# Altium footprint library basic_pcb.PcbLib: 133 footprints (part 8 of 9)
Each footprint in its own frame and in the unit in brackets; x right, y up, seen from the top. Pads: shape width x height; smd on the part's side, far side on the other; paste and mask are expansions set on the pad; w line width, h text height; cw(c..) or ccw(c..) is an arc to the next point about the centre after c.
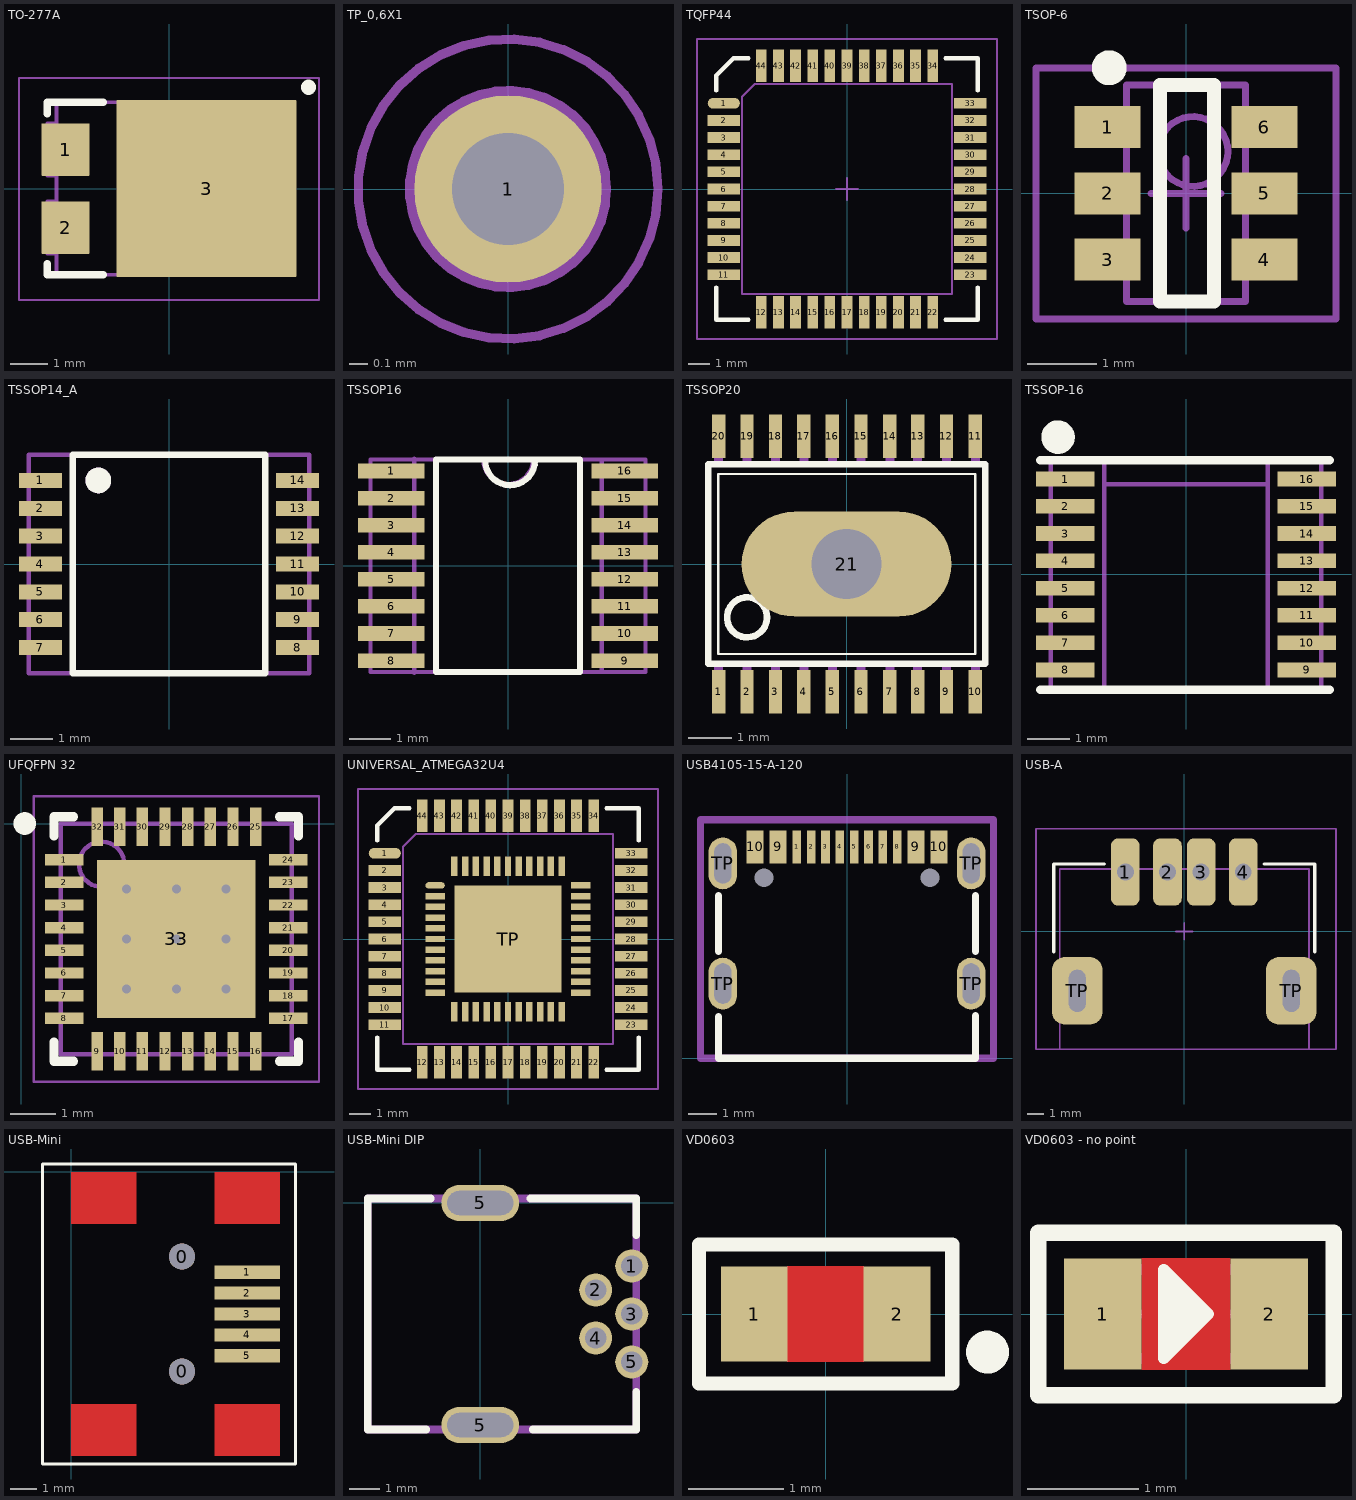
[diagram p7: the footprints below, top view; thin cyan lines are the x and y axes]

## TO-277A [mm] "SMPC (TO-277A)"
height 1.2
pads (3):
  rrect1% 1.27x1.4 smd: 1(-2.76,1.04) 2(-2.76,-1.04)
  rrect1% 4.8x4.72 smd: 3(1,0)
Top Overlay:
  circle w0.4: c3.725,2.7 r0.001
  lines w0.2: -3.25,-2 -3.25,-2.3 -1.75,-2.3 ; -3.25,2 -3.25,2.3 -1.75,2.3
Top Value:
  text ".Comment" at -4.008,-5.252 h1.52
Top Designator:
  text ".Designator" at -4.018,-4.029 h1.52
Top Component Outline:
  region: 2.25,2.3 1.2,2.3 1.2,-2.3 2.25,-2.3
  lines w0.1: -3.025,-2.3 3,-2.3 3,2.3 -3.025,2.3 ; -3,-2.3 -3,2.3 ; -3,-1.737 -3.25,-1.737 -3.25,-0.343 -3,-0.343 ; -3,0.343 -3.25,0.343 -3.25,1.737 -3,1.737 ; 3,-1.197 3.25,-1.197 3.25,1.197 3,1.197
Top Courtyard:
  lines w0.05: -4,-2.975 -4,2.95 4,2.95 4,-2.975 -4,-2.975
  lines w0.1: -0.5,0 0.5,0 ; 0,-0.5 0,0.5
3D body "86A--3DModel-STEP-56544.STEP": height 1.2, standoff 0, extent -3.25,-2.3 3.25,2.3

## TP_0,6X1 [mm]
pads (1):
  round 1 hole 0.6: 1(0,0)
Top Overlay:
  text ".Name" at 0.75,-0.6 h1.5
Top Value:
  text ".Comment" at 0.792,-0.952 h1.52
Top Designator:
  text ".Designator" at 0.782,0.271 h1.52
Top Component Outline:
  circle w0.1: c0,0 r0.3
  circle w0.1: c0,0 r0.5
Top Courtyard:
  circle w0.05: c0,0 r0.8
  lines w0.1: -0.5,0 0.5,0 ; 0,-0.5 0,0.5

## TQFP44 [mm]
pads (44):
  oval 1.5x0.5 smd: 1(-5.75,4)
  rect 1.5x0.5 smd: 2(-5.75,3.2) 3(-5.75,2.4) 4(-5.75,1.6) 5(-5.75,0.8) 6(-5.75,0) 7(-5.75,-0.8) 8(-5.75,-1.6) 9(-5.75,-2.4) 10(-5.75,-3.2) 11(-5.75,-4) 23(5.75,-4) 24(5.75,-3.2) 25(5.75,-2.4) 26(5.75,-1.6) 27(5.75,-0.8) 28(5.75,0) 29(5.75,0.8) 30(5.75,1.6) 31(5.75,2.4) 32(5.75,3.2) 33(5.75,4)
  rect 0.5x1.5 smd: 12(-4,-5.75) 13(-3.2,-5.75) 14(-2.4,-5.75) 15(-1.6,-5.75) 16(-0.8,-5.75) 17(0,-5.75) 18(0.8,-5.75) 19(1.6,-5.75) 20(2.4,-5.75) 21(3.2,-5.75) 22(4,-5.75) 34(4,5.75) 35(3.2,5.75) 36(2.4,5.75) 37(1.6,5.75) 38(0.8,5.75) 39(0,5.75) 40(-0.8,5.75) 41(-1.6,5.75) 42(-2.4,5.75) 43(-3.2,5.75) 44(-4,5.75)
Top Overlay:
  lines w0.2: -6.1,-4.6 -6.1,-6.1 -4.6,-6.1 ; -6.1,4.6 -6.1,5.3 -5.3,6.1 -4.6,6.1 ; 4.6,-6.1 6.1,-6.1 6.1,-4.6 ; 4.6,6.1 6.1,6.1 6.1,4.6
Top Value:
  text ".Comment" at -2.189,-0.952 h1.52
Top Designator:
  text ".Designator" at -2.617,0.272 h1.52
Top Component Outline:
  lines w0.1: -4.9,-4.9 -4.9,4.3 -4.3,4.9 4.9,4.9 4.9,-4.9 -4.9,-4.9
Top Courtyard:
  lines w0.1: -0.5,0 0.5,0 ; 0,-0.5 0,0.5 ; -7,-7 7,-7 7,7 -7,7 -7,-7
3D body "User Library-TQFP-44-1.STEP": height 1.1, standoff 0, extent -6,-6 6,6

## TSOP-6 [mm] "TSOP, 6-Leads, Body 3,1x1,7mm (max), Pitch 0,95mm, IPC Medium Density"
height 1.1
pads (6):
  rect 0.95x0.6 smd: 1(-1.125,0.95) 2(-1.125,0) 3(-1.125,-0.95) 4(1.125,-0.95) 5(1.125,0) 6(1.125,0.95)
Top Overlay:
  circle w0.25: c-1.1,1.8 r0.125
  lines w0.2: -0.375,-1.55 -0.375,1.55 0.4,1.55 0.4,-1.55 -0.375,-1.55
Top Value:
  text ".Comment" at -2.189,-4.152 h1.52
Top Designator:
  circle w0.1: c0.1,0.6 r0.5
  lines w0.1: -0.85,-1.55 -0.85,1.55 0.85,1.55 0.85,-1.55 -0.85,-1.55
  text ".Designator" at -2.617,-2.928 h1.52
Top Courtyard:
  lines w0.1: -0.5,0 0.5,0 ; 0,-0.5 0,0.5 ; -2.15,-1.8 -2.15,1.8 2.15,1.8 2.15,-1.8 -2.15,-1.8
3D body: height 1.1, standoff 0.01, extent -0.85,-1.55 0.85,1.55

## TSSOP14_A [mm]
height 1.1
pads (14):
  rect 1x0.35 smd: 1(-3,1.95) 2(-3,1.3) 3(-3,0.65) 4(-3,0) 5(-3,-0.65) 6(-3,-1.3) 7(-3,-1.95) 8(3,-1.95) 9(3,-1.3) 10(3,-0.65) 11(3,0) 12(3,0.65) 13(3,1.3) 14(3,1.95)
Top Overlay:
  circle w0.3: c-1.65,1.95 r0.15
  lines w0.15: -2.25,-2.55 -2.25,2.55 2.25,2.55 2.25,-2.55 -2.25,-2.55
Top Value:
  circle w0.3: c-1.65,1.95 r0.15
  lines w0.1: -2.25,-2.55 -2.25,2.55 ; 2.25,-2.55 2.25,2.55 ; -3.275,-2.55 3.275,-2.55 3.275,2.55 -3.275,2.55 -3.275,-2.55
  text ".Comment" at 0.952,-2.189 h1.52
Top Designator:
  text ".Designator" at -0.272,-2.617 h1.52
3D body: height 0.5, standoff 0, extent 2.25,-2.55 3.275,2.55
3D body: height 0.5, standoff 0, extent -3.275,-2.55 -2.25,2.55
3D body: height 1.1, standoff 0, extent -2.25,-2.55 2.25,2.55

## TSSOP16 [mm]
height 1.99
pads (16):
  rect 1.6x0.35 smd: 1(-2.8,2.275) 2(-2.8,1.625) 3(-2.8,0.975) 4(-2.8,0.325) 5(-2.8,-0.325) 6(-2.8,-0.975) 7(-2.8,-1.625) 8(-2.8,-2.275) 9(2.8,-2.275) 10(2.8,-1.625) 11(2.8,-0.975) 12(2.8,-0.325) 13(2.8,0.325) 14(2.8,0.975) 15(2.8,1.625) 16(2.8,2.275)
Top Overlay:
  lines w0.15: -0.55,2.535 ccw(c0.05,2.535) 0.65,2.525 ; -1.725,-2.55 1.725,-2.55 1.725,2.55 -1.725,2.55 -1.725,-2.55
Top Value:
  lines w0.1: -2.25,-2.575 -2.25,2.575 ; -0.6,2.56 ccw(c0,2.56) 0.6,2.55 ; 2.25,-2.55 2.25,2.55 ; -3.3,-2.55 3.3,-2.55 3.3,2.55 -3.3,2.55 -3.3,-2.55
  text ".Comment" at 0.952,-2.189 h1.52
Top Designator:
  text ".Designator" at -0.272,-2.617 h1.52
3D body: height 0.75, standoff 0, extent 2.25,-2.55 3.3,2.525
3D body: height 0.75, standoff 0, extent -3.3,-2.55 -2.25,2.525
3D body: height 1.99, standoff 0, extent -2.25,-2.55 2.25,2.525

## TSSOP20 [mil]
pads (21):
  rect 12x39 smd: 1(-115.16,-114.87) 2(-89.57,-114.87) 3(-63.98,-114.87) 4(-38.39,-114.87) 5(-12.8,-114.87) 6(13,-114.87) 7(39,-114.87) 8(64,-114.87) 9(90,-114.87) 10(116,-114.87) 11(116,115) 12(90,115) 13(64,115) 14(39,115) 15(13,115) 16(-12.8,115) 17(-38.39,115) 18(-63.98,115) 19(-89.57,115) 20(-115.16,115)
  oval 189x94.5 hole 63: 21(0,0)
Top Overlay:
  circle w6: c-89.59,-48 r18
  lines w2: -115.59,-80.87 -115.59,81 116,81 116,-80.87 -115.59,-80.87
  lines w6: -124.59,-89.87 -124.59,90 125,90 125,-89.87 -124.59,-89.87
Top Value:
  text ".Comment" at 218.57,-86.18 h60
Top Designator:
  text ".Designator" at 170.41,-103.05 h60
Bottom Courtyard:
  rectangle: -119.16,90 -111.16,123
  rectangle: -93.57,90 -85.57,123
  rectangle: -67.98,90 -59.98,123
  rectangle: -42.39,90 -34.39,123
  rectangle: -16.8,90 -8.8,123
  rectangle: 9,90 17,123
  rectangle: 35,90 43,123
  rectangle: 60,90 68,123
  rectangle: 86,90 94,123
  rectangle: 112,90 120,123
  rectangle: 112,-122.87 120,-89.87
  rectangle: 86,-122.87 94,-89.87
  rectangle: 60,-122.87 68,-89.87
  rectangle: 35,-122.87 43,-89.87
  rectangle: 9,-122.87 17,-89.87
  rectangle: -16.8,-122.87 -8.8,-89.87
  rectangle: -42.39,-122.87 -34.39,-89.87
  rectangle: -67.98,-122.87 -59.98,-89.87
  rectangle: -93.57,-122.87 -85.57,-89.87
  rectangle: -119.16,-122.87 -111.16,-89.87

## TSSOP-16 [mm]
pads (16):
  rect 1.4x0.35 smd: 1(-2.875,2.275) 2(-2.875,1.625) 3(-2.875,0.975) 4(-2.875,0.325) 5(-2.875,-0.325) 6(-2.875,-0.975) 7(-2.875,-1.625) 8(-2.875,-2.275) 9(2.875,-2.275) 10(2.875,-1.625) 11(2.875,-0.975) 12(2.875,-0.325) 13(2.875,0.325) 14(2.875,0.975) 15(2.875,1.625) 16(2.875,2.275)
Top Overlay:
  circle w0.4: c-3.05,3.275 r0.2
  lines w0.2: -3.475,-2.75 3.425,-2.75 ; -3.475,2.725 3.425,2.725
Top Value:
  text ".Comment" at 0.952,-2.189 h1.52
Top Designator:
  text ".Designator" at -0.272,-2.617 h1.52
Top Component Outline:
  lines w0.1: -1.95,-2.75 -1.95,2.75 ; -1.937,2.15 1.9,2.15 ; 1.95,-2.75 1.95,2.75 ; 3.2,-2.75 -3.225,-2.75 -3.225,2.75 3.225,2.75 3.225,-2.75
3D body "TSSOP-16.STEP": height 1, standoff 0, extent -3.2,-2.5 3.2,2.5

## UFQFPN 32 [mm]
pads (33):
  rect 0.85x0.25 smd: 1(0.954,-0.79) 2(0.954,-1.29) 3(0.954,-1.79) 4(0.954,-2.29) 5(0.954,-2.79) 6(0.954,-3.29) 7(0.954,-3.79) 8(0.954,-4.29) 17(5.904,-4.29) 18(5.904,-3.79) 19(5.904,-3.29) 20(5.904,-2.79) 21(5.904,-2.29) 22(5.904,-1.79) 23(5.904,-1.29) 24(5.904,-0.79)
  rect 0.25x0.85 smd: 9(1.679,-5.015) 10(2.179,-5.015) 11(2.679,-5.015) 12(3.179,-5.015) 13(3.679,-5.015) 14(4.179,-5.015) 15(4.679,-5.015) 16(5.179,-5.015) 25(5.179,-0.065) 26(4.679,-0.065) 27(4.179,-0.065) 28(3.679,-0.065) 29(3.179,-0.065) 30(2.679,-0.065) 31(2.179,-0.065) 32(1.679,-0.065)
  rect 3.5x3.5 smd: 33(3.429,-2.54)
via 4.529,-3.64 diameter 0.5 hole 0.2
via 3.429,-3.64 diameter 0.5 hole 0.2
via 2.329,-3.64 diameter 0.5 hole 0.2
via 4.529,-2.54 diameter 0.5 hole 0.2
via 3.429,-2.54 diameter 0.5 hole 0.2
via 2.329,-2.54 diameter 0.5 hole 0.2
via 4.529,-1.44 diameter 0.5 hole 0.2
via 3.429,-1.44 diameter 0.5 hole 0.2
via 2.329,-1.44 diameter 0.5 hole 0.2
Top Overlay:
  circle w0.25: c0.079,0.01 r0.125
  lines w0.2: 0.729,-4.815 0.729,-5.24 1.154,-5.24 ; 0.729,-0.265 0.729,0.16 1.154,0.16 ; 5.704,-5.24 6.129,-5.24 6.129,-4.815 ; 5.704,0.16 6.129,0.16 6.129,-0.265
Top Value:
  text ".Comment" at 0.292,-7.952 h1.52
Top Designator:
  circle w0.1: c1.779,-0.89 r0.5
  lines w0.1: 0.879,-5.09 5.979,-5.09 5.979,0.01 0.879,0.01 0.879,-5.09
  text ".Designator" at 0.282,-6.729 h1.52
Top Courtyard:
  lines w0.05: 0.279,-5.69 6.579,-5.69 6.579,0.61 0.279,0.61 0.279,-5.69
  lines w0.1: 2.929,-2.54 3.929,-2.54 ; 3.429,-3.04 3.429,-2.04
3D body: height 0.6, standoff 0, extent 0.879,-5.09 5.979,0.01

## UNIVERSAL_ATMEGA32U4 [mm]
pads (89):
  oval 1.5x0.5 smd: 1(-5.75,4)
  oval 0.9x0.3 smd: 1(-3.4,2.5)
  rect 1.5x0.5 smd: 2(-5.75,3.2) 3(-5.75,2.4) 4(-5.75,1.6) 5(-5.75,0.8) 6(-5.75,0) 7(-5.75,-0.8) 8(-5.75,-1.6) 9(-5.75,-2.4) 10(-5.75,-3.2) 11(-5.75,-4) 23(5.75,-4) 24(5.75,-3.2) 25(5.75,-2.4) 26(5.75,-1.6) 27(5.75,-0.8) 28(5.75,0) 29(5.75,0.8) 30(5.75,1.6) 31(5.75,2.4) 32(5.75,3.2) 33(5.75,4)
  rect 0.9x0.3 smd: 2(-3.4,2) 3(-3.4,1.5) 4(-3.4,1) 5(-3.4,0.5) 6(-3.4,0) 7(-3.4,-0.5) 8(-3.4,-1) 9(-3.4,-1.5) 10(-3.4,-2) 11(-3.4,-2.5) 23(3.4,-2.5) 24(3.4,-2) 25(3.4,-1.5) 26(3.4,-1) 27(3.4,-0.5) 28(3.4,0) 29(3.4,0.5) 30(3.4,1) 31(3.4,1.5) 32(3.4,2) 33(3.4,2.5)
  rect 0.5x1.5 smd: 12(-4,-5.75) 13(-3.2,-5.75) 14(-2.4,-5.75) 15(-1.6,-5.75) 16(-0.8,-5.75) 17(0,-5.75) 18(0.8,-5.75) 19(1.6,-5.75) 20(2.4,-5.75) 21(3.2,-5.75) 22(4,-5.75) 34(4,5.75) 35(3.2,5.75) 36(2.4,5.75) 37(1.6,5.75) 38(0.8,5.75) 39(0,5.75) 40(-0.8,5.75) 41(-1.6,5.75) 42(-2.4,5.75) 43(-3.2,5.75) 44(-4,5.75)
  rect 0.3x0.9 smd: 12(-2.5,-3.4) 13(-2,-3.4) 14(-1.5,-3.4) 15(-1,-3.4) 16(-0.5,-3.4) 17(0,-3.4) 18(0.5,-3.4) 19(1,-3.4) 20(1.5,-3.4) 21(2,-3.4) 22(2.5,-3.4) 34(2.5,3.4) 35(2,3.4) 36(1.5,3.4) 37(1,3.4) 38(0.5,3.4) 39(0,3.4) 40(-0.5,3.4) 41(-1,3.4) 42(-1.5,3.4) 43(-2,3.4) 44(-2.5,3.4)
  rect 5x5 smd: TP(0,0)
Top Overlay:
  lines w0.2: -6.1,-4.6 -6.1,-6.1 -4.6,-6.1 ; -6.1,4.6 -6.1,5.3 -5.3,6.1 -4.6,6.1 ; 4.6,-6.1 6.1,-6.1 6.1,-4.6 ; 4.6,6.1 6.1,6.1 6.1,4.6
Top Value:
  text ".Comment" at -2.189,-0.952 h1.52
Top Designator:
  text ".Designator" at -2.617,0.272 h1.52
Top Component Outline:
  lines w0.1: -4.9,-4.9 4.9,-4.9 4.9,4.9 -4.3,4.9 -4.9,4.3 -4.9,-4.9
Top Courtyard:
  lines w0.1: -0.5,0 0.5,0 ; 0,-0.5 0,0.5 ; -7,-7 -7,7 7,7 7,-7 -7,-7
3D body "User Library-TQFP-44-1.STEP": height 1.1, standoff 0, extent -6,-6 6,6

## USB4105-15-A-120 [mm] "USB Type-c 16p USB4105-15-A-120"
pads (18):
  rect 0.3x1.15 smd: 1(-1.75,7.355) 2(-1.25,7.355) 3(-0.75,7.355) 4(-0.25,7.355) 5(0.25,7.355) 6(0.75,7.355) 7(1.25,7.355) 8(1.75,7.355)
  rect 0.6x1.15 smd: 9(-2.4,7.355) 9(2.4,7.355) 10(-3.2,7.355) 10(3.2,7.355)
  oval 1x1.8 hole 0.6 slot 1.4 at 90 deg: TP(-4.32,2.6) TP(-4.32,6.78) TP(4.32,2.6) TP(4.32,6.78)
  round 0 hole 0.65 unplated: ""(-2.89,6.28) ""(2.89,6.28)
Top Overlay:
  lines w0.254: -4.475,1.45 -4.47,0 4.47,0 4.475,1.475 ; -4.475,3.725 -4.475,5.65 ; 4.475,3.725 4.475,5.65
Top Value:
  text ".Comment" at -2.189,2.648 h1.52
Top Designator:
  text ".Designator" at -2.617,3.872 h1.52
Top Courtyard:
  lines w0.254: -5.1,0 5.1,0 5.1,8.3 -5.1,8.3 -5.1,0
3D body "USB4105-15-A-120.stp": height 3.26, standoff -1.2, extent -4.47,0 4.47,7.7

## USB-A [mm] "Óíèâåðñàëüíûé ðàçúåì USB-A äëÿ ïîâåðõíîñòíîãî è ñêâîõíîãî ìîíòàæà"
pads (6):
  rrect50% 1.7x4 hole 1: 1(-3.5,3.525) 2(-1,3.525) 3(1,3.525) 4(3.5,3.525)
  rrect50% 3x4 hole 1 slot 2.5 at 90 deg: TP(-6.35,-3.525) TP(6.35,-3.525)
Top Overlay:
  lines w0.2: -7.75,-1.225 -7.75,4 -4.75,4 ; 4.75,4 7.75,4 7.75,-1.225
Top Value:
  text ".Comment" at -2.189,-4.452 h1.52
Top Designator:
  text ".Designator" at -2.617,-3.228 h1.52
Top Component Outline:
  lines w0.1: -7.4,-7 7.4,-7 7.4,3.7 -7.4,3.7 -7.4,-7
Top Courtyard:
  lines w0.1: -0.5,0 0.5,0 ; 0,-0.5 0,0.5 ; -8.8,-7 9,-7 9,6.1 8.1,6.1 -7.9,6.1 -8.8,6.1 -8.8,-7
3D body "xb-sua-110h9.stp": height 6.95, standoff -1.74, extent -7.3,-6.975 7.3,3.625

## USB-Mini [mm]
pads (7):
  round 1 hole 1 mask+0: 0(4.25,-7.65) 0(4.25,-3.25)
  rect 2.5x0.5 smd: 1(6.75,-3.85) 2(6.75,-4.65) 3(6.75,-5.45) 4(6.75,-6.25) 5(6.75,-7.05)
Top Layer:
  rectangle: 0,-10.9 2.5,-8.9
  rectangle: 0,-2 2.5,0
  rectangle: 5.5,-10.9 8,-8.9
  rectangle: 5.5,-2 8,0
Top Overlay:
  lines w0.1: -1.1,-11.2 8.6,-11.2 8.6,0.3 -1.1,0.3 -1.1,-11.2
Top Value:
  text ".Comment" at 2.152,-7.689 h1.52
Top Designator:
  text ".Designator" at 0.928,-8.117 h1.52
3D body "User Library-usb_mini_smd.STEP": height 4.14, standoff -0.95, extent -1.7,-10.4 7.5,-0.5

## USB-Mini DIP [mm]
height 3.9
pads (7):
  round 1.1 hole 0.7: 1(5.05,-2.1) 2(3.85,-2.9) 3(5.05,-3.7) 4(3.85,-4.5) 5(5.05,-5.3)
  oval 2.6x1.2 hole 0.8 slot 2.2 at 0 deg: 5(0,-7.4) 5(0,0)
Top Overlay:
  lines w0.254: -1.8,-7.55 -3.75,-7.55 -3.75,0.15 -1.65,0.15 ; 1.675,0.15 5.2,0.15 5.2,-1.075 ; 1.75,-7.55 5.2,-7.55 5.2,-6.3
Top Value:
  lines w0.254: -3.75,-7.55 5.2,-7.55 5.2,0.15 -3.75,0.15 -3.75,-7.55
  text ".Comment" at -2.189,-4.652 h1.52
Top Designator:
  text ".Designator" at -2.617,-3.428 h1.52
3D body: height 3.9, standoff 0, extent -3.749,-7.549 5.199,0.149

## VD0603 [mm]
height 0.45
pads (2):
  rect 0.7x1 smd: 1(-0.75,0) 2(0.75,0)
Top Layer:
  pour cut-out: -0.4,0.5 0.4,0.5 0.4,-0.5 -0.4,-0.5
Top Overlay:
  circle w0.25: c1.7,-0.4 r0.1
  lines w0.15: -1.33,-0.73 -1.33,0.73 1.33,0.73 1.33,-0.73 -1.33,-0.73
Top Value:
  text ".Comment" at -0.861,-0.374 h0.6
Top Designator:
  text ".Designator" at -1.376,0.143 h0.8
Top Component Outline:
  lines w0.1: -0.85,-0.4 0.75,-0.4 0.75,0.4 -0.85,0.4 -0.85,-0.4
Top Courtyard:
  lines w0.05: -1.35,-0.75 1.35,-0.75 1.35,0.75 -1.35,0.75 -1.35,-0.75
  lines w0.1: -0.375,0 0.375,0 ; 0,-0.375 0,0.375
3D body "User Library-LED SMD0603.step": height 0.68, standoff 0, extent -0.825,-0.368 0.825,0.357

## VD0603 - no point [mm]
height 0.45
pads (2):
  rect 0.7x1 smd: 1(-0.75,0) 2(0.75,0)
Top Layer:
  pour cut-out: -0.4,0.5 0.4,0.5 0.4,-0.5 -0.4,-0.5
Top Overlay:
  region: -0.2,0.4 0.2,0 -0.2,-0.4
  lines w0.102: -0.2,-0.4 0.2,0 -0.2,0.4 -0.2,-0.4
  lines w0.15: -1.33,-0.73 -1.33,0.73 1.33,0.73 1.33,-0.73 -1.33,-0.73
Top Value:
  text ".Comment" at -0.861,-0.374 h0.6
Top Designator:
  text ".Designator" at -1.376,0.143 h0.8
Top Component Outline:
  lines w0.1: -0.85,-0.4 0.75,-0.4 0.75,0.4 -0.85,0.4 -0.85,-0.4
Top Courtyard:
  lines w0.05: -1.35,-0.75 1.35,-0.75 1.35,0.75 -1.35,0.75 -1.35,-0.75
  lines w0.1: -0.375,0 0.375,0 ; 0,-0.375 0,0.375
3D body "User Library-LED SMD0603.step": height 0.68, standoff 0, extent -0.825,-0.368 0.825,0.357